# Altium integrated library Microchip Power Management MOSFET Driver.IntLib: 464 symbols (part 10 of 10)
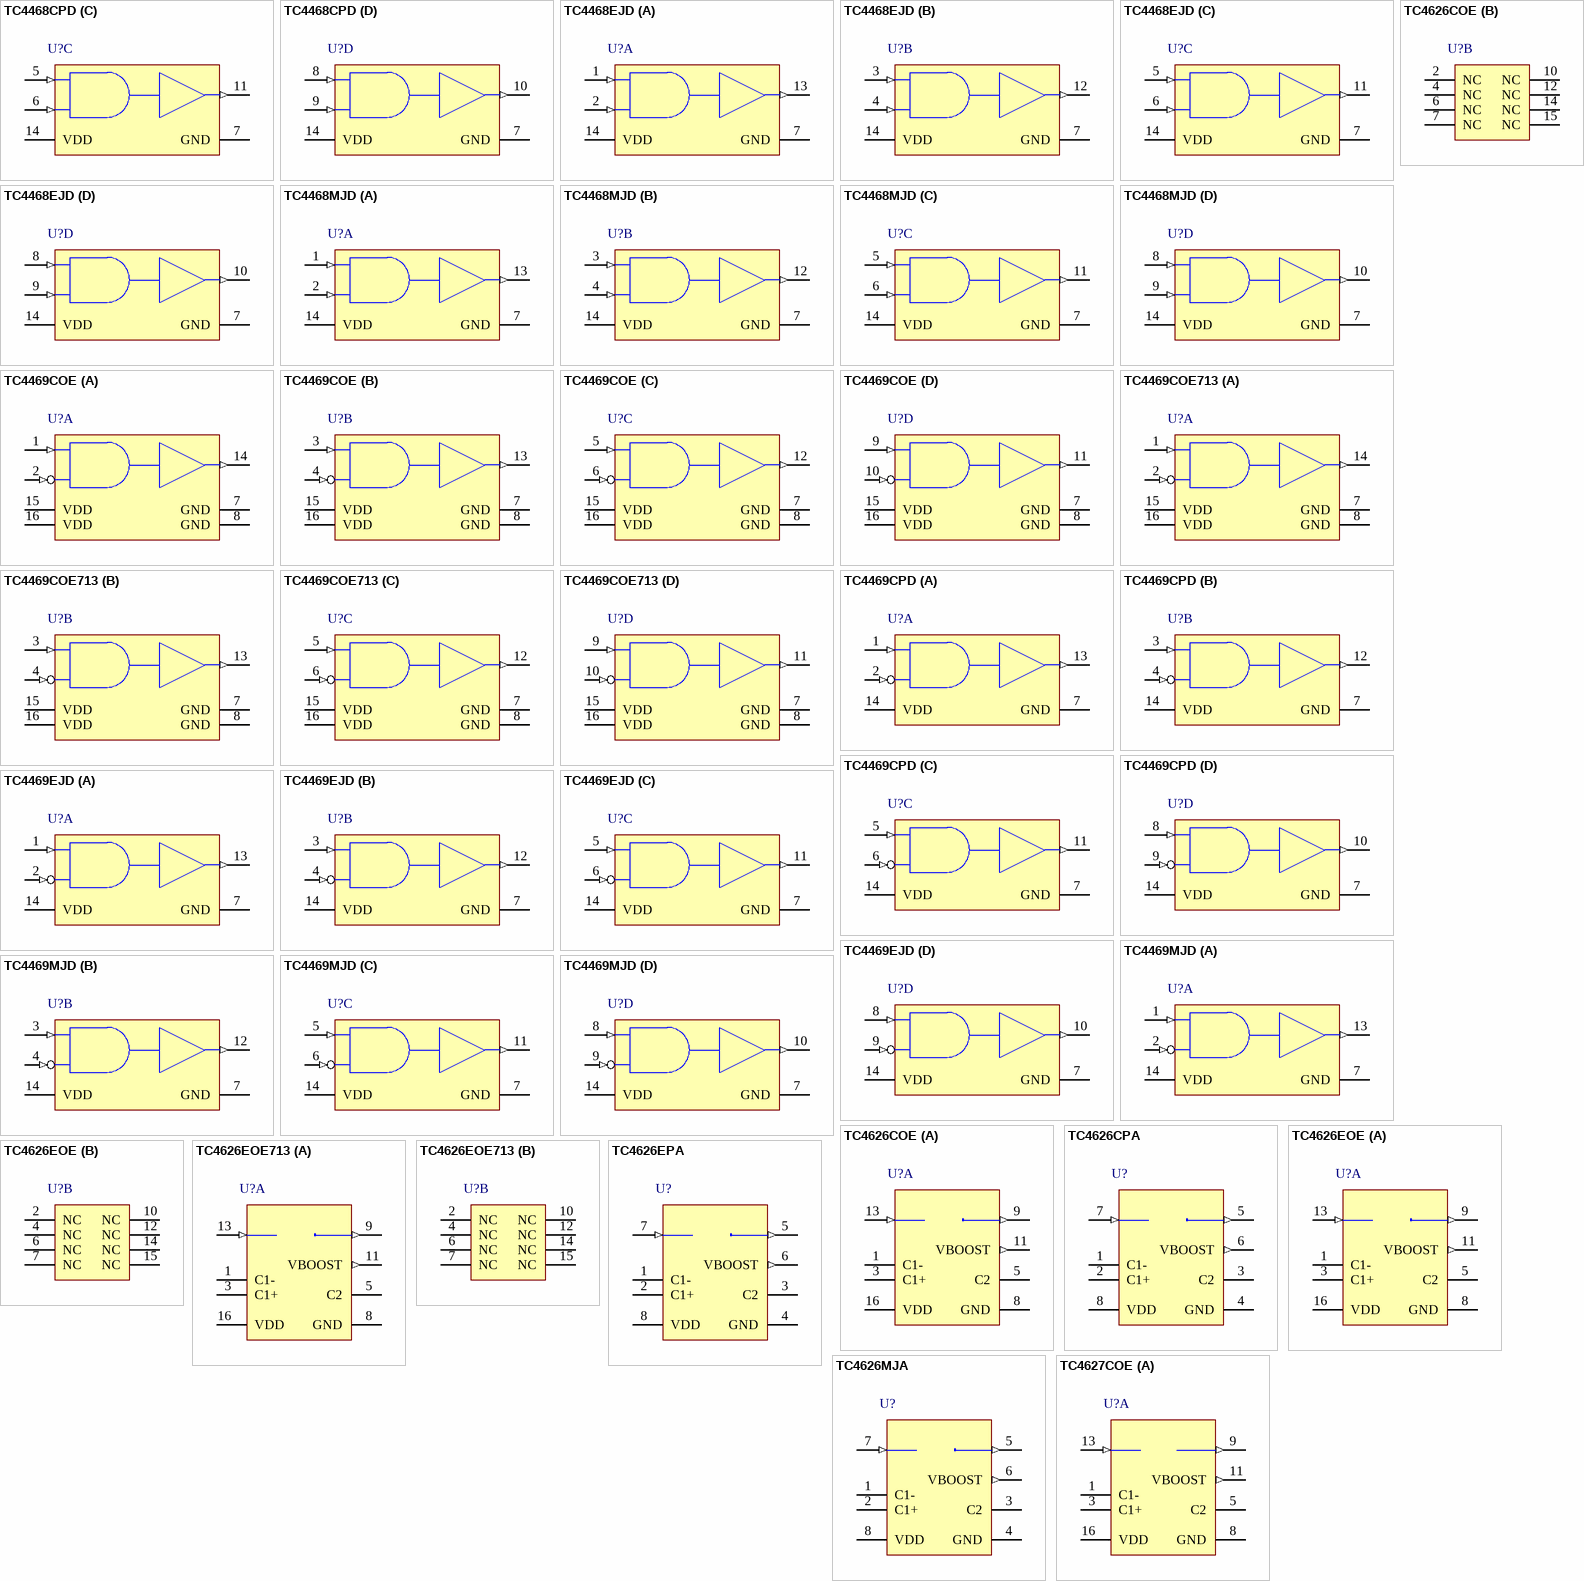
[diagram p34: symbols TC4468CPD to TC4627COE]

## TC4469COE713
designator U?
1.2A Quad MOSFET Driver, AND/INV, Commercial Temperature, Tape and Reel; DatasheetVersion: revB, Feb-2003; PackageVersion: revBB, Aug-2009; PackageReference: SOIC-OE16; PackageDescription: 16-Lead Plastic Small Outline (OE) - Wide 7.50mm Body [SOIC]; Code_JEDEC: MS-013-AA; Code_IPC: SOIC127P1030-16; ComponentLink1Description: Manufacturer URL; ComponentLink1URL: http://www.microchip.com/; ComponentLink2Description: Datasheet; ComponentLink2URL: http://ww1.microchip.com/downloads/en/DeviceDoc/21425b.pdf; ComponentLink3Description: Package Specification; ComponentLink3URL: http://www.microchip.com/stellent/groups/techpub_sg/documents/packagingspec/en012702.pdf
footprint SOIC-OE16_N (SOIC, 16-Leads, Body 10.3x7.5mm, Pitch 1.27mm, IPC Medium Density)
footprint SOIC-OE16_L (SOIC, 16-Leads, Body 10.3x7.5mm, Pitch 1.27mm, IPC High Density)
footprint SOIC-OE16_M (SOIC, 16-Leads, Body 10.3x7.5mm, Pitch 1.27mm, IPC Low Density)
pins on every part: 7 GND (power), 8 GND (power), 15 VDD (power), 16 VDD (power)
part A pins: 1 1A (in), 2 1B (in), 14 1Y (out)
part B pins: 3 2A (in), 4 2B (in), 13 2Y (out)
part C pins: 5 3A (in), 6 3B (in), 12 3Y (out)
part D pins: 9 4A (in), 10 4B (in), 11 4Y (out)

## TC4469CPD
designator U?
1.2A Quad MOSFET Driver, AND/INV, Commercial Temperature; DatasheetVersion: revB, Feb-2003; PackageVersion: revBB, Aug-2009; PackageReference: PDIP300-PD14; PackageDescription: 14-Lead Plastic Dual In-Line (PD) - 300 mil Body [PDIP]; Code_JEDEC: MS-001-AA; ComponentLink1Description: Manufacturer URL; ComponentLink1URL: http://www.microchip.com/; ComponentLink2Description: Datasheet; ComponentLink2URL: http://ww1.microchip.com/downloads/en/DeviceDoc/21425b.pdf; ComponentLink3Description: Package Specification; ComponentLink3URL: http://www.microchip.com/stellent/groups/techpub_sg/documents/packagingspec/en012702.pdf
footprint PDIP300-PD14 (DIP, 14-Leads, Row Spacing 7.62mm, Pitch 2.54mm, Body 19.2x6.6mm)
pins on every part: 7 GND (power), 14 VDD (power)
part A pins: 1 1A (in), 2 1B (in), 13 1Y (out)
part B pins: 3 2A (in), 4 2B (in), 12 2Y (out)
part C pins: 5 3A (in), 6 3B (in), 11 3Y (out)
part D pins: 8 4A (in), 9 4B (in), 10 4Y (out)

## TC4469EJD
designator U?
1.2A Quad MOSFET Driver, AND/INV, Industrial Temperature; DatasheetVersion: revB, Feb-2003; PackageVersion: revBB, Aug-2009; PackageReference: CERDIP300-JD14; PackageDescription: 14-Lead Ceramic Dual In-Line (JD) - 300mil Body [CERDIP]; ComponentLink1Description: Manufacturer URL; ComponentLink1URL: http://www.microchip.com/; ComponentLink2Description: Datasheet; ComponentLink2URL: http://ww1.microchip.com/downloads/en/DeviceDoc/21425b.pdf; ComponentLink3Description: Package Specification; ComponentLink3URL: http://www.microchip.com/stellent/groups/techpub_sg/documents/packagingspec/en012702.pdf
footprint CERDIP300-JD14 (DIP, 14-Leads, Row Spacing 7.62mm, Pitch 2.54mm, Body 19.3x6.7mm)
pins on every part: 7 GND (power), 14 VDD (power)
part A pins: 1 1A (in), 2 1B (in), 13 1Y (out)
part B pins: 3 2A (in), 4 2B (in), 12 2Y (out)
part C pins: 5 3A (in), 6 3B (in), 11 3Y (out)
part D pins: 8 4A (in), 9 4B (in), 10 4Y (out)

## TC4469MJD
designator U?
1.2A Quad MOSFET Driver, AND/INV, -55C to +125C Temperature; DatasheetVersion: revB, Feb-2003; PackageVersion: revBB, Aug-2009; PackageReference: CERDIP300-JD14; PackageDescription: 14-Lead Ceramic Dual In-Line (JD) - 300mil Body [CERDIP]; ComponentLink1Description: Manufacturer URL; ComponentLink1URL: http://www.microchip.com/; ComponentLink2Description: Datasheet; ComponentLink2URL: http://ww1.microchip.com/downloads/en/DeviceDoc/21425b.pdf; ComponentLink3Description: Package Specification; ComponentLink3URL: http://www.microchip.com/stellent/groups/techpub_sg/documents/packagingspec/en012702.pdf
footprint CERDIP300-JD14 (DIP, 14-Leads, Row Spacing 7.62mm, Pitch 2.54mm, Body 19.3x6.7mm)
pins on every part: 7 GND (power), 14 VDD (power)
part A pins: 1 1A (in), 2 1B (in), 13 1Y (out)
part B pins: 3 2A (in), 4 2B (in), 12 2Y (out)
part C pins: 5 3A (in), 6 3B (in), 11 3Y (out)
part D pins: 8 4A (in), 9 4B (in), 10 4Y (out)

## TC4626COE
designator U?
Power CMOS Drivers With Voltage Tripler, Inverting, Commercial Temperature; DatasheetVersion: 3/02/2003; PackageVersion: revBB, Aug-2009; PackageReference: SOIC-OE16; PackageDescription: 16-Lead Plastic Small Outline (OE) - Wide 7.50mm Body [SOIC]; Code_JEDEC: MS-013-AA; Code_IPC: SOIC127P1030-16; ComponentLink1Description: Manufacturer URL; ComponentLink1URL: http://www.microchip.com/; ComponentLink2Description: Datasheet; ComponentLink2URL: http://ww1.microchip.com/downloads/en/DeviceDoc/21426b.pdf; ComponentLink3Description: Package Specification; ComponentLink3URL: http://www.microchip.com/stellent/groups/techpub_sg/documents/packagingspec/en012702.pdf
footprint SOIC-OE16_N (SOIC, 16-Leads, Body 10.3x7.5mm, Pitch 1.27mm, IPC Medium Density)
footprint SOIC-OE16_L (SOIC, 16-Leads, Body 10.3x7.5mm, Pitch 1.27mm, IPC High Density)
footprint SOIC-OE16_M (SOIC, 16-Leads, Body 10.3x7.5mm, Pitch 1.27mm, IPC Low Density)
part A pins: 1 C1-, 3 C1+, 5 C2, 8 GND (power), 9 ~{OUT} (out), 11 VBOOST (out), 13 IN (in), 16 VDD (power)
part B pins: 2 NC, 4 NC, 6 NC, 7 NC, 10 NC, 12 NC, 14 NC, 15 NC

## TC4626CPA
designator U?
Power CMOS Drivers With Voltage Tripler, Inverting, Commercial Temperature; DatasheetVersion: 3/02/2003; PackageVersion: revBB, Aug-2009; PackageReference: PDIP300-PA8; PackageDescription: 8-Lead Plastic Dual In-Line (PA) - 300 mil Body [PDIP]; Code_JEDEC: MS-001-BA; ComponentLink1Description: Manufacturer URL; ComponentLink1URL: http://www.microchip.com/; ComponentLink2Description: Datasheet; ComponentLink2URL: http://ww1.microchip.com/downloads/en/DeviceDoc/21426b.pdf; ComponentLink3Description: Package Specification; ComponentLink3URL: http://www.microchip.com/stellent/groups/techpub_sg/documents/packagingspec/en012702.pdf
footprint PDIP300-PA8 (DIP, 8-Leads, Row Spacing 7.62mm, Pitch 2.54mm, Body 9.5x6.6mm)
pins: 1 C1-, 2 C1+, 3 C2, 4 GND (power), 5 ~{OUT} (out), 6 VBOOST (out), 7 IN (in), 8 VDD (power)

## TC4626EOE
designator U?
Power CMOS Drivers With Voltage Tripler, Inverting, Industrial Temperature; DatasheetVersion: 3/02/2003; PackageVersion: revBB, Aug-2009; PackageReference: SOIC-OE16; PackageDescription: 16-Lead Plastic Small Outline (OE) - Wide 7.50mm Body [SOIC]; Code_JEDEC: MS-013-AA; Code_IPC: SOIC127P1030-16; ComponentLink1Description: Manufacturer URL; ComponentLink1URL: http://www.microchip.com/; ComponentLink2Description: Datasheet; ComponentLink2URL: http://ww1.microchip.com/downloads/en/DeviceDoc/21426b.pdf; ComponentLink3Description: Package Specification; ComponentLink3URL: http://www.microchip.com/stellent/groups/techpub_sg/documents/packagingspec/en012702.pdf
footprint SOIC-OE16_N (SOIC, 16-Leads, Body 10.3x7.5mm, Pitch 1.27mm, IPC Medium Density)
footprint SOIC-OE16_L (SOIC, 16-Leads, Body 10.3x7.5mm, Pitch 1.27mm, IPC High Density)
footprint SOIC-OE16_M (SOIC, 16-Leads, Body 10.3x7.5mm, Pitch 1.27mm, IPC Low Density)
part A pins: 1 C1-, 3 C1+, 5 C2, 8 GND (power), 9 ~{OUT} (out), 11 VBOOST (out), 13 IN (in), 16 VDD (power)
part B pins: 2 NC, 4 NC, 6 NC, 7 NC, 10 NC, 12 NC, 14 NC, 15 NC

## TC4626EOE713
designator U?
Power CMOS Drivers With Voltage Tripler, Inverting, Industrial Temperature, Tape and Reel; DatasheetVersion: 3/02/2003; PackageVersion: revBB, Aug-2009; PackageReference: SOIC-OE16; PackageDescription: 16-Lead Plastic Small Outline (OE) - Wide 7.50mm Body [SOIC]; Code_JEDEC: MS-013-AA; Code_IPC: SOIC127P1030-16; ComponentLink1Description: Manufacturer URL; ComponentLink1URL: http://www.microchip.com/; ComponentLink2Description: Datasheet; ComponentLink2URL: http://ww1.microchip.com/downloads/en/DeviceDoc/21426b.pdf; ComponentLink3Description: Package Specification; ComponentLink3URL: http://www.microchip.com/stellent/groups/techpub_sg/documents/packagingspec/en012702.pdf
footprint SOIC-OE16_N (SOIC, 16-Leads, Body 10.3x7.5mm, Pitch 1.27mm, IPC Medium Density)
footprint SOIC-OE16_L (SOIC, 16-Leads, Body 10.3x7.5mm, Pitch 1.27mm, IPC High Density)
footprint SOIC-OE16_M (SOIC, 16-Leads, Body 10.3x7.5mm, Pitch 1.27mm, IPC Low Density)
part A pins: 1 C1-, 3 C1+, 5 C2, 8 GND (power), 9 ~{OUT} (out), 11 VBOOST (out), 13 IN (in), 16 VDD (power)
part B pins: 2 NC, 4 NC, 6 NC, 7 NC, 10 NC, 12 NC, 14 NC, 15 NC

## TC4626EPA
designator U?
Power CMOS Drivers With Voltage Tripler, Inverting, Industrial Temperature; DatasheetVersion: 3/02/2003; PackageVersion: revBB, Aug-2009; PackageReference: PDIP300-PA8; PackageDescription: 8-Lead Plastic Dual In-Line (PA) - 300 mil Body [PDIP]; Code_JEDEC: MS-001-BA; ComponentLink1Description: Manufacturer URL; ComponentLink1URL: http://www.microchip.com/; ComponentLink2Description: Datasheet; ComponentLink2URL: http://ww1.microchip.com/downloads/en/DeviceDoc/21426b.pdf; ComponentLink3Description: Package Specification; ComponentLink3URL: http://www.microchip.com/stellent/groups/techpub_sg/documents/packagingspec/en012702.pdf
footprint PDIP300-PA8 (DIP, 8-Leads, Row Spacing 7.62mm, Pitch 2.54mm, Body 9.5x6.6mm)
pins: 1 C1-, 2 C1+, 3 C2, 4 GND (power), 5 ~{OUT} (out), 6 VBOOST (out), 7 IN (in), 8 VDD (power)

## TC4626MJA
designator U?
Power CMOS Drivers With Voltage Tripler, Inverting, -55C to +125C Temperature; DatasheetVersion: 3/02/2003; PackageVersion: revBB, Aug-2009; PackageReference: CERDIP300-JA8; PackageDescription: 8-Lead Ceramic Dual In-Line (JA) - 300mil Body [CERDIP]; ComponentLink1Description: Manufacturer URL; ComponentLink1URL: http://www.microchip.com/; ComponentLink2Description: Datasheet; ComponentLink2URL: http://ww1.microchip.com/downloads/en/DeviceDoc/21426b.pdf; ComponentLink3Description: Package Specification; ComponentLink3URL: http://www.microchip.com/stellent/groups/techpub_sg/documents/packagingspec/en012702.pdf
footprint CERDIP300-JA8 (DIP, 8-Leads, Row Spacing 7.62mm, Pitch 2.54mm, Body 9.8x6.7mm)
pins: 1 C1-, 2 C1+, 3 C2, 4 GND (power), 5 ~{OUT} (out), 6 VBOOST (out), 7 IN (in), 8 VDD (power)

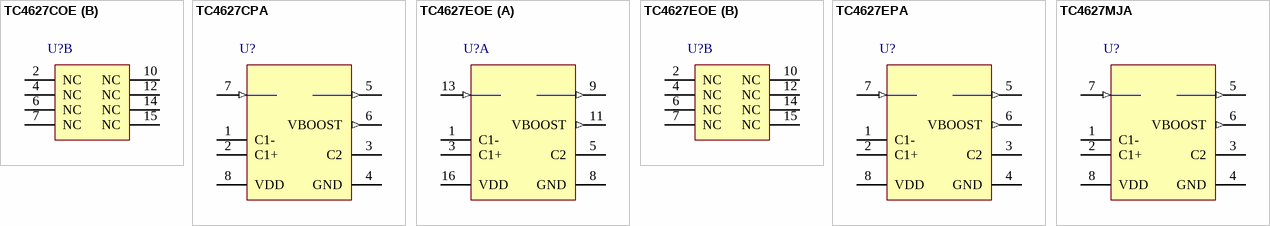
[diagram p25: symbols TC4627COE to TC4627MJA]

## TC4627COE
designator U?
Power CMOS Drivers With Voltage Tripler, Non Inverting, Commercial Temperature; DatasheetVersion: 3/02/2003; PackageVersion: revBB, Aug-2009; PackageReference: SOIC-OE16; PackageDescription: 16-Lead Plastic Small Outline (OE) - Wide 7.50mm Body [SOIC]; Code_JEDEC: MS-013-AA; Code_IPC: SOIC127P1030-16; ComponentLink1Description: Manufacturer URL; ComponentLink1URL: http://www.microchip.com/; ComponentLink2Description: Datasheet; ComponentLink2URL: http://ww1.microchip.com/downloads/en/DeviceDoc/21426b.pdf; ComponentLink3Description: Package Specification; ComponentLink3URL: http://www.microchip.com/stellent/groups/techpub_sg/documents/packagingspec/en012702.pdf
footprint SOIC-OE16_N (SOIC, 16-Leads, Body 10.3x7.5mm, Pitch 1.27mm, IPC Medium Density)
footprint SOIC-OE16_L (SOIC, 16-Leads, Body 10.3x7.5mm, Pitch 1.27mm, IPC High Density)
footprint SOIC-OE16_M (SOIC, 16-Leads, Body 10.3x7.5mm, Pitch 1.27mm, IPC Low Density)
part A pins: 1 C1-, 3 C1+, 5 C2, 8 GND (power), 9 OUT (out), 11 VBOOST (out), 13 IN (in), 16 VDD (power)
part B pins: 2 NC, 4 NC, 6 NC, 7 NC, 10 NC, 12 NC, 14 NC, 15 NC

## TC4627CPA
designator U?
Power CMOS Drivers With Voltage Tripler, Non Inverting, Commercial Temperature; DatasheetVersion: 3/02/2003; PackageVersion: revBB, Aug-2009; PackageReference: PDIP300-PA8; PackageDescription: 8-Lead Plastic Dual In-Line (PA) - 300 mil Body [PDIP]; Code_JEDEC: MS-001-BA; ComponentLink1Description: Manufacturer URL; ComponentLink1URL: http://www.microchip.com/; ComponentLink2Description: Datasheet; ComponentLink2URL: http://ww1.microchip.com/downloads/en/DeviceDoc/21426b.pdf; ComponentLink3Description: Package Specification; ComponentLink3URL: http://www.microchip.com/stellent/groups/techpub_sg/documents/packagingspec/en012702.pdf
footprint PDIP300-PA8 (DIP, 8-Leads, Row Spacing 7.62mm, Pitch 2.54mm, Body 9.5x6.6mm)
pins: 1 C1-, 2 C1+, 3 C2, 4 GND (power), 5 OUT (out), 6 VBOOST (out), 7 IN (in), 8 VDD (power)

## TC4627EOE
designator U?
Power CMOS Drivers With Voltage Tripler, Non Inverting, Industrial Temperature; DatasheetVersion: 3/02/2003; PackageVersion: revBB, Aug-2009; PackageReference: SOIC-OE16; PackageDescription: 16-Lead Plastic Small Outline (OE) - Wide 7.50mm Body [SOIC]; Code_JEDEC: MS-013-AA; Code_IPC: SOIC127P1030-16; ComponentLink1Description: Manufacturer URL; ComponentLink1URL: http://www.microchip.com/; ComponentLink2Description: Datasheet; ComponentLink2URL: http://ww1.microchip.com/downloads/en/DeviceDoc/21426b.pdf; ComponentLink3Description: Package Specification; ComponentLink3URL: http://www.microchip.com/stellent/groups/techpub_sg/documents/packagingspec/en012702.pdf
footprint SOIC-OE16_N (SOIC, 16-Leads, Body 10.3x7.5mm, Pitch 1.27mm, IPC Medium Density)
footprint SOIC-OE16_L (SOIC, 16-Leads, Body 10.3x7.5mm, Pitch 1.27mm, IPC High Density)
footprint SOIC-OE16_M (SOIC, 16-Leads, Body 10.3x7.5mm, Pitch 1.27mm, IPC Low Density)
part A pins: 1 C1-, 3 C1+, 5 C2, 8 GND (power), 9 OUT (out), 11 VBOOST (out), 13 IN (in), 16 VDD (power)
part B pins: 2 NC, 4 NC, 6 NC, 7 NC, 10 NC, 12 NC, 14 NC, 15 NC

## TC4627EPA
designator U?
Power CMOS Drivers With Voltage Tripler, Non Inverting, Industrial Temperature; DatasheetVersion: 3/02/2003; PackageVersion: revBB, Aug-2009; PackageReference: PDIP300-PA8; PackageDescription: 8-Lead Plastic Dual In-Line (PA) - 300 mil Body [PDIP]; Code_JEDEC: MS-001-BA; ComponentLink1Description: Manufacturer URL; ComponentLink1URL: http://www.microchip.com/; ComponentLink2Description: Datasheet; ComponentLink2URL: http://ww1.microchip.com/downloads/en/DeviceDoc/21426b.pdf; ComponentLink3Description: Package Specification; ComponentLink3URL: http://www.microchip.com/stellent/groups/techpub_sg/documents/packagingspec/en012702.pdf
footprint PDIP300-PA8 (DIP, 8-Leads, Row Spacing 7.62mm, Pitch 2.54mm, Body 9.5x6.6mm)
pins: 1 C1-, 2 C1+, 3 C2, 4 GND (power), 5 OUT (out), 6 VBOOST (out), 7 IN (in), 8 VDD (power)

## TC4627MJA
designator U?
Power CMOS Drivers With Voltage Tripler, Non Inverting, -55C to +125C Temperature; DatasheetVersion: 3/02/2003; PackageVersion: revBB, Aug-2009; PackageReference: CERDIP300-JA8; PackageDescription: 8-Lead Ceramic Dual In-Line (JA) - 300mil Body [CERDIP]; ComponentLink1Description: Manufacturer URL; ComponentLink1URL: http://www.microchip.com/; ComponentLink2Description: Datasheet; ComponentLink2URL: http://ww1.microchip.com/downloads/en/DeviceDoc/21426b.pdf; ComponentLink3Description: Package Specification; ComponentLink3URL: http://www.microchip.com/stellent/groups/techpub_sg/documents/packagingspec/en012702.pdf
footprint CERDIP300-JA8 (DIP, 8-Leads, Row Spacing 7.62mm, Pitch 2.54mm, Body 9.8x6.7mm)
pins: 1 C1-, 2 C1+, 3 C2, 4 GND (power), 5 OUT (out), 6 VBOOST (out), 7 IN (in), 8 VDD (power)